# Altium footprint library SIM900.PcbLib: 1 footprints
Each footprint in its own frame and in the unit in brackets; x right, y up, seen from the top. Pads: shape width x height; smd on the part's side, far side on the other; paste and mask are expansions set on the pad; w line width, h text height; cw(c..) or ccw(c..) is an arc to the next point about the centre after c.
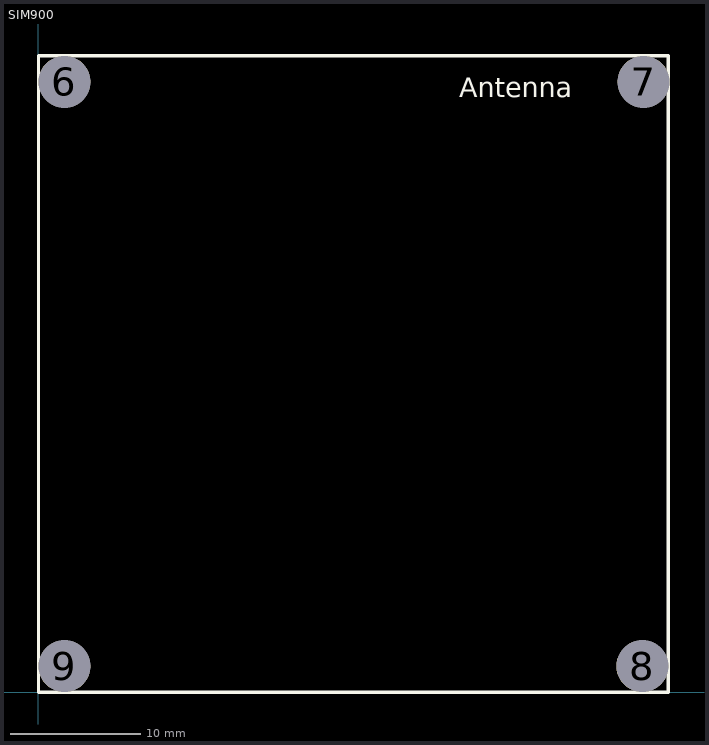
[diagram p0: the footprint, top view; thin cyan lines are the x and y axes]

## SIM900 [mm]
pads (4):
  round 4 hole 4: 6(2,47) 7(46.6,47) 8(46.5,2) 9(2,2)
Top Overlay:
  lines w0.254: 0,0 48.5,0 48.5,49 0,49 0,0
  text "Antenna" at 32.4,45.8 h1.52